# EAGLE library part ATMEGA32U4 (library 1dah)
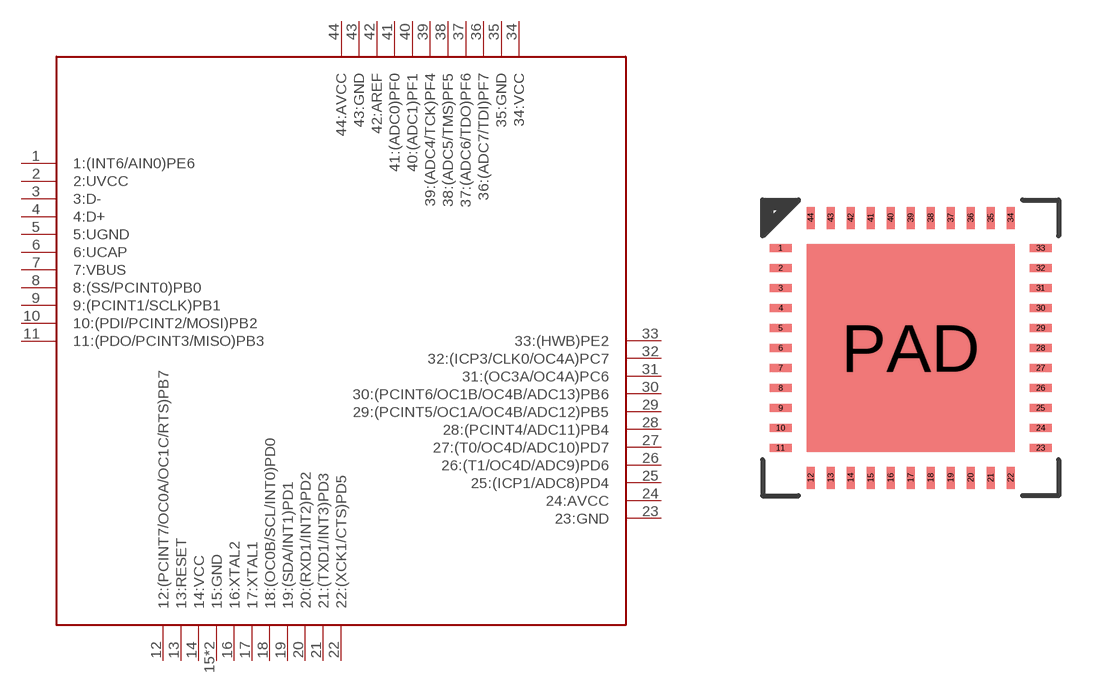
[diagram p56: symbol with the pads of QFN-44; footprint QFN-44]

Designator prefix -

## ATMEGA32U4  [QFN-44]
1  1:(INT6/AIN0)PE6
2  2:UVCC
3  3:D-
4  4:D+
5  5:UGND
6  6:UCAP
7  7:VBUS
8  8:(SS/PCINT0)PB0
9  9:(PCINT1/SCLK)PB1
10  10:(PDI/PCINT2/MOSI)PB2
11  11:(PDO/PCINT3/MISO)PB3
12  12:(PCINT7/OC0A/OC1C/RTS)PB7
13  13:RESET
14  14:VCC
15  15:GND
16  16:XTAL2
17  17:XTAL1
18  18:(OC0B/SCL/INT0)PD0
19  19:(SDA/INT1)PD1
20  20:(RXD1/INT2)PD2
21  21:(TXD1/INT3)PD3
22  22:(XCK1/CTS)PD5
23  23:GND
24  24:AVCC
25  25:(ICP1/ADC8)PD4
26  26:(T1/OC4D/ADC9)PD6
27  27:(T0/OC4D/ADC10)PD7
28  28:(PCINT4/ADC11)PB4
29  29:(PCINT5/OC1A/OC4B/ADC12)PB5
30  30:(PCINT6/OC1B/OC4B/ADC13)PB6
31  31:(OC3A/OC4A)PC6
32  32:(ICP3/CLK0/OC4A)PC7
33  33:(HWB)PE2
34  34:VCC
35  35:GND
36  36:(ADC7/TDI)PF7
37  37:(ADC6/TDO)PF6
38  38:(ADC5/TMS)PF5
39  39:(ADC4/TCK)PF4
40  40:(ADC1)PF1
41  41:(ADC0)PF0
42  42:AREF
43  43:GND
44  44:AVCC
PAD  15:GND

## Footprint QFN-44 (pad centres in mm)
smd 0.55 x 0.2: 1 -3.25,2.5; 2 -3.25,2; 3 -3.25,1.5; 4 -3.25,1; 5 -3.25,0.5; 6 -3.25,0; 7 -3.25,-0.5; 8 -3.25,-1; 9 -3.25,-1.5; 10 -3.25,-2; 11 -3.25,-2.5; 23 3.25,-2.5; 24 3.25,-2; 25 3.25,-1.5; 26 3.25,-1; 27 3.25,-0.5; 28 3.25,0; 29 3.25,0.5; 30 3.25,1; 31 3.25,1.5; 32 3.25,2; 33 3.25,2.5
smd 0.2 x 0.55: 12 -2.5,-3.25; 13 -2,-3.25; 14 -1.5,-3.25; 15 -1,-3.25; 16 -0.5,-3.25; 17 0,-3.25; 18 0.5,-3.25; 19 1,-3.25; 20 1.5,-3.25; 21 2,-3.25; 22 2.5,-3.25; 34 2.5,3.25; 35 2,3.25; 36 1.5,3.25; 37 1,3.25; 38 0.5,3.25; 39 0,3.25; 40 -0.5,3.25; 41 -1,3.25; 42 -1.5,3.25; 43 -2,3.25; 44 -2.5,3.25
smd 5.2 x 5.2: PAD 0,0